# Altium footprint library RadioLampLibrary.PcbLib: 2 footprints
Each footprint in its own frame and in the unit in brackets; x right, y up, seen from the top. Pads: shape width x height; smd on the part's side, far side on the other; paste and mask are expansions set on the pad; w line width, h text height; cw(c..) or ccw(c..) is an arc to the next point about the centre after c.
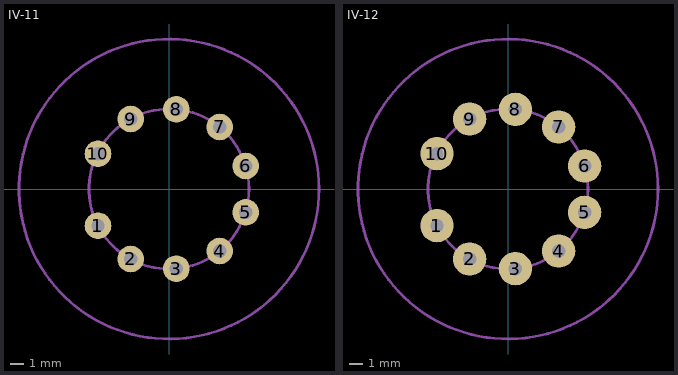
[diagram p0: the footprints below, top view; thin cyan lines are the x and y axes]

## IV-11 [mm]
pads (10):
  round 2 hole 1: 1(-5.325,-2.75) 2(-2.875,-5.25) 3(0.55,-5.975) 4(3.8,-4.65) 5(5.75,-1.75) 6(5.75,1.725) 7(3.8,4.65) 8(0.55,5.975) 9(-2.875,5.25) 10(-5.325,2.65)
Mechanical 1:
  circle w0.2: c0,0 r11.25
  circle w0.2: c0,0 r6

## IV-12 [mm]
pads (10):
  round 2.5 hole 1: 1(-5.325,-2.75) 2(-2.875,-5.25) 3(0.55,-5.975) 4(3.8,-4.65) 5(5.75,-1.75) 6(5.75,1.725) 7(3.8,4.65) 8(0.55,5.975) 9(-2.875,5.25) 10(-5.325,2.65)
Mechanical 1:
  circle w0.2: c0,0 r11.25
  circle w0.2: c0,0 r6